# EAGLE library part MAX232ECWE (library m_ic-comm)
RS232 TRANSEIVER
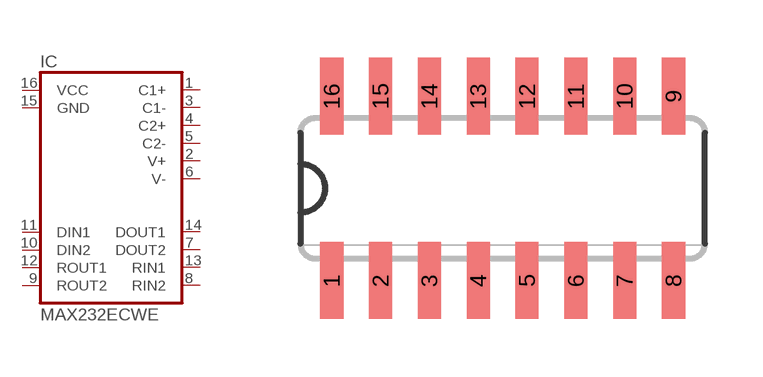
[diagram p1: symbol with the pads of SOIC-16; footprint SOIC-16]

Designator prefix IC

## MAX232ECWED (MANUF: Texas Instruments; PARTNUM: SN65C3232E)  [SOIC-16]
1  C1+
2  V+
3  C1-
4  C2+
5  C2-
6  V-
7  DOUT2  out
8  RIN2  in
9  ROUT2  out
10  DIN2  in
11  DIN1  in
12  ROUT1  out
13  RIN1  in
14  DOUT1  out
15  GND
16  VCC

## Footprint SOIC-16 (pad centres in mm)
Plastic Small-Outline Package TI D (R-PDSO-G16) Source: TI sn65c3232e datasheet
smd 0.6 x 2: 1 -4.445,-2.4; 2 -3.175,-2.4; 3 -1.905,-2.4; 4 -0.635,-2.4; 5 0.635,-2.4; 6 1.905,-2.4; 7 3.175,-2.4; 8 4.445,-2.4; 9 4.445,2.4; 10 3.175,2.4; 11 1.905,2.4; 12 0.635,2.4; 13 -0.635,2.4; 14 -1.905,2.4; 15 -3.175,2.4; 16 -4.445,2.4